# EAGLE library part RN4 (library Scott-Electrical)
Res Thick Film Array ISOL Molded 8-Pin 1206(4 X 0603) Convex SMD T/R
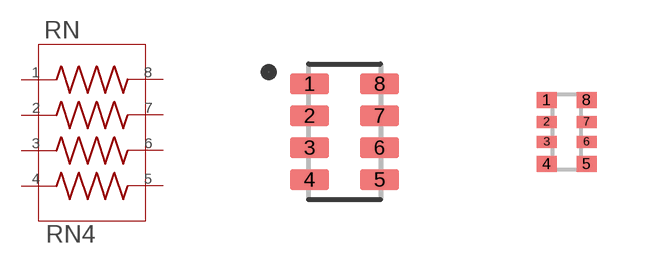
[diagram p0: symbol with the pads of 0603X4; footprints 0603X4, 0402X4]

Designator prefix RN

## RN4-0603X4, RN4_10K-0603X4 (LCSC: C29718; MFR: Uniroyal Elec; MFR_P: 4D03WGJ0103T5E; VALUE: 10k)  [0603X4]
1  1  pas
2  2  pas
3  3  pas
4  4  pas
5  5  pas
6  6  pas
7  7  pas
8  8  pas

## RN4_REV-0603X4, RN4_10K_REV-0603X4 (LCSC: C29718; MFR: Uniroyal Elec; MFR_P: 4D03WGJ0103T5E; VALUE: 10k)  [0603X4]
1  2  pas
2  1  pas
3  4  pas
4  3  pas
5  6  pas
6  5  pas
7  8  pas
8  7  pas

## RN4-0402X4, RN4_10K-0402X4 (LCSC: C25725; MFR: Uniroyal Elec; MFR_P: 4D02WGJ0103TCE; VALUE: 10k)  [0402X4]
Pads as for 0603X4

## RN4_REV-0402X4, RN4_10K_REV-0402X4 (LCSC: C25725; MFR: Uniroyal Elec; MFR_P: 4D02WGJ0103TCE; VALUE: 10k)  [0402X4]
Pads as for 0603X4

## Footprint 0603X4 (pad centres in mm)
smd 0.97 x 0.53: 1 -0.875,1.2; 2 -0.875,0.4; 3 -0.875,-0.4; 4 -0.875,-1.2; 5 0.875,-1.2; 6 0.875,-0.4; 7 0.875,0.4; 8 0.875,1.2

## Footprint 0402X4 (pad centres in mm)
Array chip resistor size 4 × 0402 Source: http://docs-europe.electrocomponents.com/webdocs/0114/0900766b80114d99.pdf
smd 0.5 x 0.4: 1 -0.5,0.8; 4 -0.5,-0.8; 5 0.5,-0.8; 8 0.5,0.8
smd 0.5 x 0.3: 2 -0.5,0.25; 3 -0.5,-0.25; 6 0.5,-0.25; 7 0.5,0.25